# Altium footprint library aiskylab-08Optoelectronics.PcbLib: 57 footprints (part 1 of 4)
Each footprint in its own frame and in the unit in brackets; x right, y up, seen from the top. Pads: shape width x height; smd on the part's side, far side on the other; paste and mask are expansions set on the pad; w line width, h text height; cw(c..) or ccw(c..) is an arc to the next point about the centre after c.
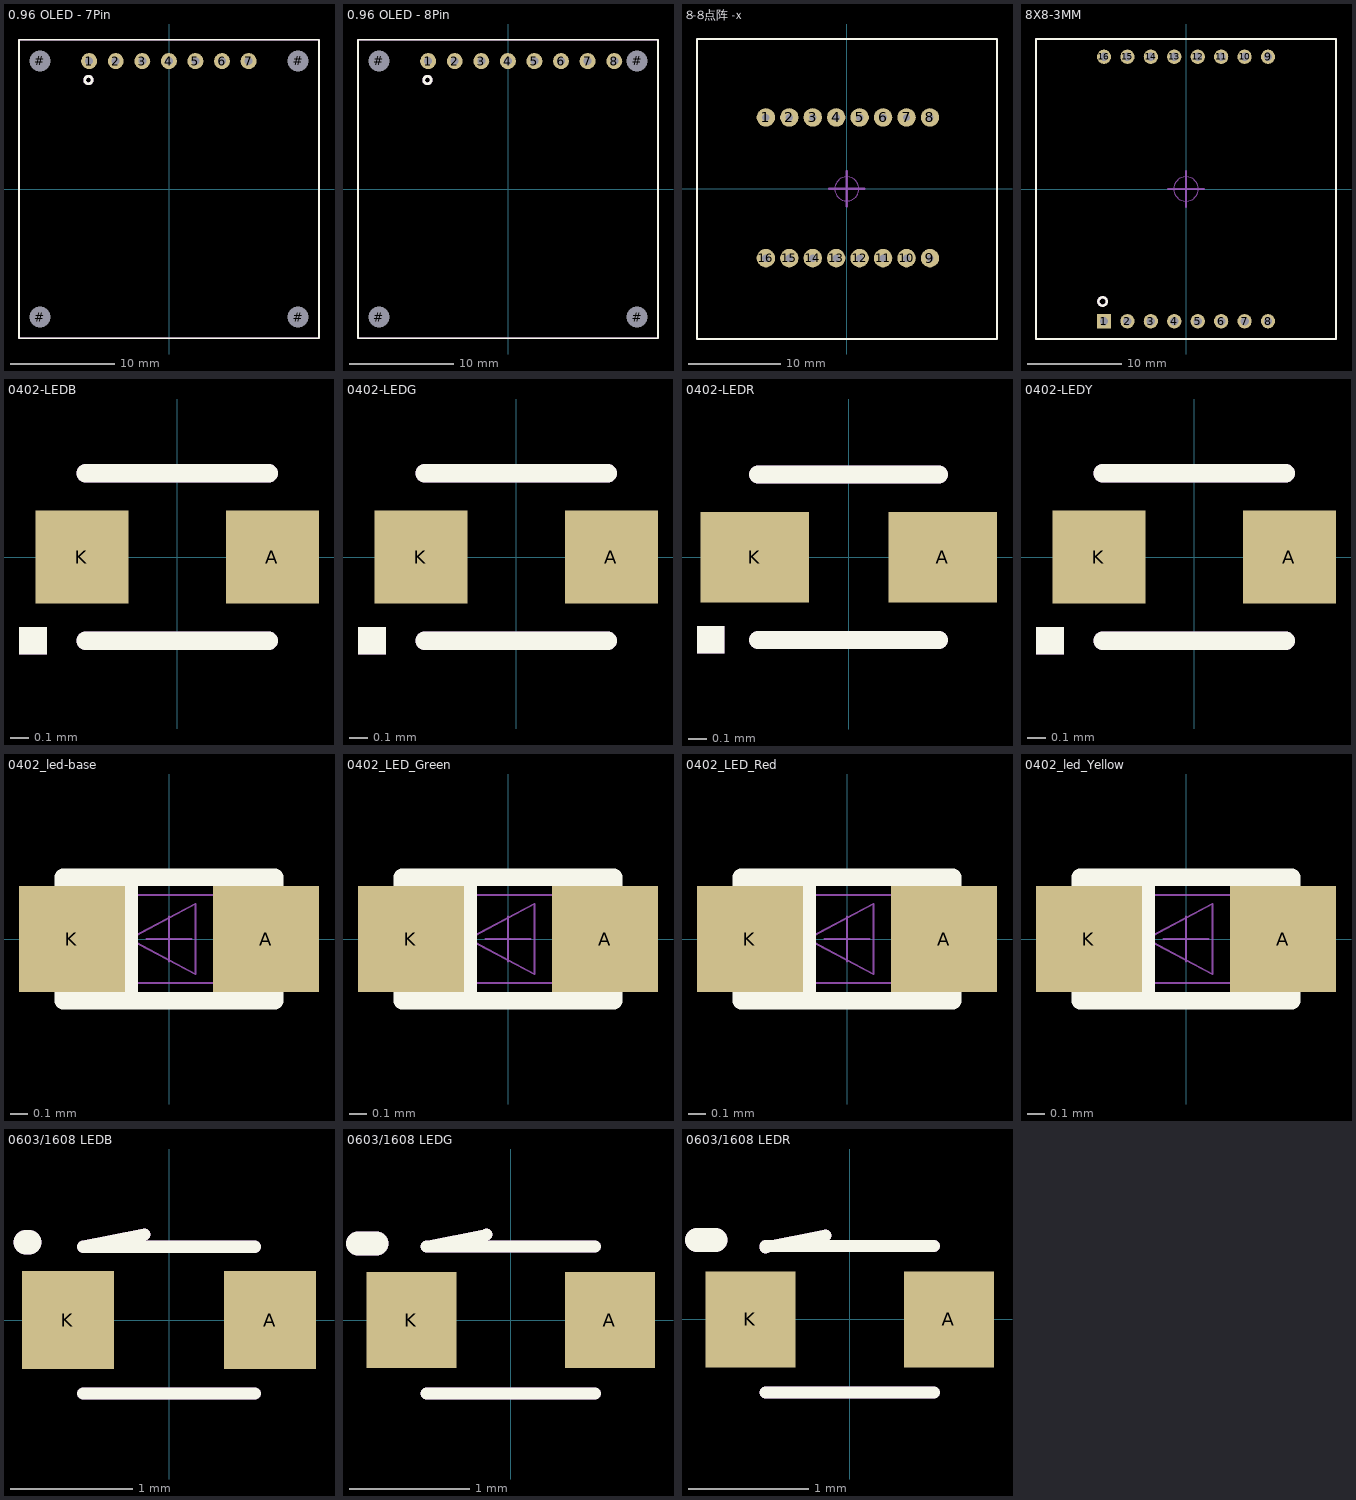
[diagram p0: the footprints below, top view; thin cyan lines are the x and y axes]

## 0.96 OLED - 7Pin [mil]
pads (11):
  round 60 hole 30: 1(-300.5,481.26) 2(-200.5,481.26) 3(-100.5,481.26) 4(-0.5,481.26) 5(99.5,481.26) 6(199.5,481.26) 7(299.5,481.26)
  round 60 hole 78.74: #(-485.76,-482.26) #(-485.76,482.26) #(485.76,-482.26) #(485.76,482.26)
Top Overlay:
  circle w10: c-303,410 r14.14
  lines w5.91: -564.5,-561 564.5,-561 564.5,561 -564.5,561 -564.5,-561
Top Designator:
  text ".Designator" at -300.06,-19.05 h60
Top Assembly:
  circle w10: c-303,410 r14.14
  lines w5.91: -564.5,-561 564.5,-561 564.5,561 -564.5,561 -564.5,-561
Top Component Outline:
  circle w10: c-303,410 r14.14
  lines w5.91: -564.5,-561 564.5,-561 564.5,561 -564.5,561 -564.5,-561
3D body "096-oled.stp": height 204.72, standoff -239.69, extent -567.77,-555.82 559.79,565.83

## 0.96 OLED - 8Pin [mil]
pads (12):
  round 60 hole 30: 1(-300.5,481.26) 2(-200.5,481.26) 3(-100.5,481.26) 4(-0.5,481.26) 5(99.5,481.26) 6(199.5,481.26) 7(299.5,481.26) 8(400,481.26)
  round 60 hole 78.74: #(-485.76,-482.26) #(-485.76,482.26) #(485.76,-482.26) #(485.76,482.26)
Top Overlay:
  circle w10: c-303,410 r14.14
  lines w5.91: -564.5,-561 564.5,-561 564.5,561 -564.5,561 -564.5,-561
Top Designator:
  text ".Designator" at -300.06,-19.05 h60
Top Assembly:
  circle w10: c-303,410 r14.14
  lines w5.91: -564.5,-561 564.5,-561 564.5,561 -564.5,561 -564.5,-561
Top Component Outline:
  circle w10: c-303,410 r14.14
  lines w5.91: -564.5,-561 564.5,-561 564.5,561 -564.5,561 -564.5,-561
3D body "096-oled.stp": height 204.72, standoff -239.69, extent -567.77,-555.82 559.79,565.83

## 0.96-128-64 [mil]
Top Designator:
  text ".Designator" at -284.9,-44.54 h60
3D body "128x64.stp": height 57.87, standoff -59.48, extent -510.59,-440.73 540.59,391.64

## 8-8点阵 -x [mm]
pads (16):
  round 2 hole 0.8: 1(-8.78,7.74) 2(-6.24,7.74) 3(-3.7,7.74) 4(-1.16,7.74) 5(1.38,7.74) 6(3.92,7.74) 7(6.46,7.74) 8(9,7.74) 9(9,-7.5) 10(6.46,-7.5) 11(3.92,-7.5) 12(1.38,-7.5) 13(-1.16,-7.5) 14(-3.7,-7.5) 15(-6.24,-7.5) 16(-8.78,-7.5)
Top Overlay:
  lines w0.254: -16.24,-16.26 -16.24,16.24 16.26,16.24 16.26,-16.26 -16.24,-16.26
Top Designator:
  text ".Designator" at -7.608,-0.518 h1.52
Top Component Center:
  circle w0.05: c0,0 r1.308
  lines w0.254: -1.905,0 1.905,0 ; 0,-1.905 0,1.905
3D body "8-8-3mmled.stp": height 7.2, standoff -3, extent -16,-16.01 16,16

## 8X8-3MM [mm]
pads (16):
  rect 1.524x1.524 hole 0.9: 1(-8.75,-14.1)
  round 1.524 hole 0.9: 2(-6.25,-14.1) 3(-3.75,-14.1) 4(-1.25,-14.1) 5(1.25,-14.1) 6(3.75,-14.1) 7(6.25,-14.1) 8(8.75,-14.1) 9(8.75,14.1) 10(6.25,14.1) 11(3.75,14.1) 12(1.25,14.1) 13(-1.25,14.1) 14(-3.75,14.1) 15(-6.25,14.1) 16(-8.75,14.1)
Top Overlay:
  circle w0.254: c-8.9,-12 r0.447
  lines w0.254: -16.002,-16.002 16.002,-16.002 16.002,16.002 -16.002,16.002 -16.002,-16.002
Top Designator:
  text ".Designator" at -7.618,-0.508 h1.52
Top Assembly:
  circle w0.254: c-8.9,-12 r0.447
  lines w0.254: -16.002,-16.002 16.002,-16.002 16.002,16.002 -16.002,16.002 -16.002,-16.002
Top Component Center:
  circle w0.05: c0,0 r1.308
  lines w0.254: -1.905,0 1.905,0 ; 0,-1.905 0,1.905
Top Component Outline:
  lines w0.254: -16.002,-16.002 16.002,-16.002 16.002,16.002 -16.002,16.002 -16.002,-16.002
Top 3D Body:
  lines w0.254: -16.002,-16.002 16.002,-16.002 16.002,16.002 -16.002,16.002 -16.002,-16.002
3D body "8-8-3mmled.stp": height 7.2, standoff -3, extent -16,-16.01 16,16

## 0402-LEDB [mil]
height 122.05
pads (2):
  rect 20x20 smd mask+2.76: A(20.5,0)
  rect 20x20 smd: K(-20.5,0)
Top Overlay:
  region: -28,-15 -34,-15 -34,-21 -28,-21
  lines w3.94: -19.68,-18 19.68,-18 ; -19.68,18 19.68,18
Bottom Overlay:
Top Designator:
  text ".Designator" at -277.15,-20.51 h60
Top Assembly:
  region: -28,-15 -34,-15 -34,-21 -28,-21
  lines w3.94: -19.68,-18 19.68,-18 ; -19.68,18 19.68,18
Top Component Outline:
  region: -28,-15 -34,-15 -34,-21 -28,-21
  lines w3.94: -19.68,-18 19.68,-18 ; -19.68,18 19.68,18
3D body "led_0402g.stp": height 15.55, standoff 0, extent -19.69,-9.85 19.68,9.84
3D body "0_508-0_508-0402-3.stp": height 0.79, standoff 0, extent -30.5,-9.99 -10.5,10.01
3D body "0_508-0_508-0402-3.stp": height 0.79, standoff 0, extent 10.5,-10 30.5,10

## 0402-LEDG [mil]
height 122.05
pads (2):
  rect 20x20 smd mask+2.76: A(20.5,0)
  rect 20x20 smd: K(-20.5,0)
Top Overlay:
  region: -28,-15 -34,-15 -34,-21 -28,-21
  lines w3.94: -19.68,-18 19.68,-18 ; -19.68,18 19.68,18
Bottom Overlay:
Top Designator:
  text ".Designator" at -277.15,-20.51 h60
Top Assembly:
  region: -28,-15 -34,-15 -34,-21 -28,-21
  lines w3.94: -19.68,-18 19.68,-18 ; -19.68,18 19.68,18
Top Component Outline:
  region: -28,-15 -34,-15 -34,-21 -28,-21
  lines w3.94: -19.68,-18 19.68,-18 ; -19.68,18 19.68,18
3D body "led_0402b.stp": height 15.55, standoff 0, extent -19.69,-9.85 19.68,9.84
3D body "0_508-0_508-0402-3.stp": height 0.79, standoff 0, extent -30.5,-9.99 -10.5,10.01
3D body "0_508-0_508-0402-3.stp": height 0.79, standoff 0, extent 10.5,-10 30.5,10

## 0402-LEDR [mm]
height 3.1
pads (2):
  rect 0.6x0.5 smd: A(0.52,0)
  rect 0.6x0.5 smd mask+0.07: K(-0.52,0)
Top Overlay:
  region: -0.686,-0.381 -0.838,-0.381 -0.838,-0.533 -0.686,-0.533
  lines w0.1: -0.5,-0.457 0.5,-0.457 ; -0.5,0.457 0.5,0.457
Bottom Overlay:
Top Designator:
  text ".Designator" at -7.047,-0.521 h1.52
Top Assembly:
  region: -0.686,-0.381 -0.838,-0.381 -0.838,-0.533 -0.686,-0.533
  lines w0.1: -0.5,-0.457 0.5,-0.457 ; -0.5,0.457 0.5,0.457
Top Component Outline:
  region: -0.686,-0.381 -0.838,-0.381 -0.838,-0.533 -0.686,-0.533
  lines w0.1: -0.5,-0.457 0.5,-0.457 ; -0.5,0.457 0.5,0.457
3D body "led_0402r.stp": height 0.4, standoff 0, extent -0.5,-0.25 0.5,0.25
3D body "0_508-0_508-0402-3.stp": height 0.02, standoff 0, extent -0.813,-0.254 -0.305,0.254
3D body "0_508-0_508-0402-3.stp": height 0.02, standoff 0, extent 0.305,-0.254 0.813,0.254

## 0402-LEDY [mil] "Yellow"
height 122.05
pads (2):
  rect 20x20 smd mask+2.76: A(20.5,0)
  rect 20x20 smd: K(-20.5,0)
Top Overlay:
  region: -28,-15 -34,-15 -34,-21 -28,-21
  lines w3.94: -19.68,-18 19.68,-18 ; -19.68,18 19.68,18
Bottom Overlay:
Top Designator:
  text ".Designator" at -277.15,-20.51 h60
Top Assembly:
  region: -28,-15 -34,-15 -34,-21 -28,-21
  lines w3.94: -19.68,-18 19.68,-18 ; -19.68,18 19.68,18
Top Component Outline:
  region: -28,-15 -34,-15 -34,-21 -28,-21
  lines w3.94: -19.68,-18 19.68,-18 ; -19.68,18 19.68,18
3D body "led_0402h.stp": height 15.55, standoff 0, extent -19.69,-9.85 19.68,9.84
3D body "0_508-0_508-0402-3.stp": height 0.79, standoff 0, extent -30.5,-9.99 -10.5,10.01
3D body "0_508-0_508-0402-3.stp": height 0.79, standoff 0, extent 10.5,-10 30.5,10

## 0402_led-base [mm] "CHIPLED 0402 Lx QH9x OSRAM"
height 0.4
pads (2):
  rect 0.6x0.6 smd paste-0.5 mask+0.1: A(0.55,0) K(-0.55,0)
Top Overlay:
  lines w0.1: -0.375,-0.35 -0.375,0.35 ; -0.325,-0.35 -0.325,0.35 ; -0.225,-0.35 -0.225,0.35 ; -0.6,-0.35 0.6,-0.35 0.6,0.35 -0.6,0.35 -0.6,-0.35
Top Paste:
  region: -0.25,-0.275 -0.6,-0.275 -0.63,-0.275 -0.685,-0.252 -0.727,-0.21 -0.75,-0.155 -0.75,-0.125 -0.75,0.125 -0.75,0.155 -0.727,0.21 -0.685,0.252 -0.63,0.275 -0.6,0.275 -0.25,0.275 -0.35,0
  region: 0.25,0.275 0.6,0.275 0.63,0.275 0.685,0.252 0.727,0.21 0.75,0.155 0.75,0.125 0.75,-0.125 0.75,-0.155 0.727,-0.21 0.685,-0.252 0.63,-0.275 0.6,-0.275 0.25,-0.275 0.35,0
  lines w0.01: -0.75,-0.125 ccw(c-0.6,-0.125) -0.6,-0.275 -0.25,-0.275 -0.35,0 -0.25,0.275 -0.6,0.275 ccw(c-0.6,0.125) -0.75,0.125 -0.75,-0.125 ; 0.25,-0.275 0.6,-0.275 ccw(c0.6,-0.125) 0.75,-0.125 0.75,0.125 ccw(c0.6,0.125) 0.6,0.275 0.25,0.275 0.35,0 0.25,-0.275
Top Designator:
  text ".Designator" at -7.618,-0.508 h1.52
Top Assembly:
  lines w0.01: -0.225,-0.2 -0.225,0 ; -0.225,0.2 -0.225,0 ; -0.127,0 0.127,0 ; 0,-0.127 0,0.127 ; -0.225,0 0.15,-0.2 0.15,0.2 -0.225,0 ; -0.5,-0.25 -0.5,0.25 0.5,0.25 0.5,-0.25 -0.5,-0.25
3D body "ChipLedLens.stp": height 0.35, standoff 0.15, extent -0.5,-0.25 0.5,0.25
3D body "ChipLedWith-Red.stp": height 0.16, standoff 0, extent -0.502,-0.252 0.502,0.252

## 0402_LED_Green [mm] "CHIPLED TREU GREEN 0402 / LT QH9G OSRAM"
height 0.4
pads (2):
  rect 0.6x0.6 smd: A(0.55,0) K(-0.55,0)
Top Overlay:
  lines w0.1: -0.375,-0.35 -0.375,0.35 ; -0.325,-0.35 -0.325,0.35 ; -0.225,-0.35 -0.225,0.35 ; -0.6,-0.35 0.6,-0.35 0.6,0.35 -0.6,0.35 -0.6,-0.35
Top Paste:
  region: -0.25,-0.275 -0.6,-0.275 -0.63,-0.275 -0.685,-0.252 -0.727,-0.21 -0.75,-0.155 -0.75,-0.125 -0.75,0.125 -0.75,0.155 -0.727,0.21 -0.685,0.252 -0.63,0.275 -0.6,0.275 -0.25,0.275 -0.35,0
  region: 0.25,0.275 0.6,0.275 0.63,0.275 0.685,0.252 0.727,0.21 0.75,0.155 0.75,0.125 0.75,-0.125 0.75,-0.155 0.727,-0.21 0.685,-0.252 0.63,-0.275 0.6,-0.275 0.25,-0.275 0.35,0
  lines w0.01: -0.75,-0.125 ccw(c-0.6,-0.125) -0.6,-0.275 -0.25,-0.275 -0.35,0 -0.25,0.275 -0.6,0.275 ccw(c-0.6,0.125) -0.75,0.125 -0.75,-0.125 ; 0.25,-0.275 0.6,-0.275 ccw(c0.6,-0.125) 0.75,-0.125 0.75,0.125 ccw(c0.6,0.125) 0.6,0.275 0.25,0.275 0.35,0 0.25,-0.275
Top Designator:
  text ".Designator" at -7.618,-0.508 h1.52
Top Assembly:
  lines w0.01: -0.225,-0.2 -0.225,0 ; -0.225,0.2 -0.225,0 ; -0.127,0 0.127,0 ; 0,-0.127 0,0.127 ; -0.225,0 0.15,0.2 0.15,-0.2 -0.225,0 ; -0.5,-0.25 -0.5,0.25 0.5,0.25 0.5,-0.25 -0.5,-0.25
3D body "ChipLedLens.stp": height 0.35, standoff 0.15, extent -0.5,-0.25 0.5,0.25
3D body "ChipLedWith-Green.stp": height 0.16, standoff 0, extent -0.502,-0.252 0.502,0.252

## 0402_LED_Red [mm] "CHIPLED RED 0402 / LR QH9F OSRAM"
height 0.4
pads (2):
  rect 0.6x0.6 smd paste-0.5 mask+0.1: A(0.55,0) K(-0.55,0)
Top Overlay:
  lines w0.1: -0.375,-0.35 -0.375,0.35 ; -0.325,-0.35 -0.325,0.35 ; -0.225,-0.35 -0.225,0.35 ; -0.6,-0.35 0.6,-0.35 0.6,0.35 -0.6,0.35 -0.6,-0.35
Top Paste:
  region: -0.25,-0.275 -0.6,-0.275 -0.63,-0.275 -0.685,-0.252 -0.727,-0.21 -0.75,-0.155 -0.75,-0.125 -0.75,0.125 -0.75,0.155 -0.727,0.21 -0.685,0.252 -0.63,0.275 -0.6,0.275 -0.25,0.275 -0.35,0
  region: 0.25,0.275 0.6,0.275 0.63,0.275 0.685,0.252 0.727,0.21 0.75,0.155 0.75,0.125 0.75,-0.125 0.75,-0.155 0.727,-0.21 0.685,-0.252 0.63,-0.275 0.6,-0.275 0.25,-0.275 0.35,0
  lines w0.01: -0.75,-0.125 ccw(c-0.6,-0.125) -0.6,-0.275 -0.25,-0.275 -0.35,0 -0.25,0.275 -0.6,0.275 ccw(c-0.6,0.125) -0.75,0.125 -0.75,-0.125 ; 0.25,-0.275 0.6,-0.275 ccw(c0.6,-0.125) 0.75,-0.125 0.75,0.125 ccw(c0.6,0.125) 0.6,0.275 0.25,0.275 0.35,0 0.25,-0.275
Top Designator:
  text ".Designator" at -7.618,-0.508 h1.52
Top Assembly:
  lines w0.01: -0.225,-0.2 -0.225,0 ; -0.225,0.2 -0.225,0 ; -0.127,0 0.127,0 ; 0,-0.127 0,0.127 ; -0.225,0 0.15,-0.2 0.15,0.2 -0.225,0 ; -0.5,-0.25 0.5,-0.25 0.5,0.25 -0.5,0.25 -0.5,-0.25
3D body "ChipLedWith-Red.stp": height 0.16, standoff 0, extent -0.502,-0.252 0.502,0.252
3D body "ChipLedLens.stp": height 0.35, standoff 0.15, extent -0.5,-0.25 0.5,0.25

## 0402_led_Yellow [mm] "CHIPLED YELLOW 0402 / LY QH9G OSRAM"
height 0.4
pads (2):
  rect 0.6x0.6 smd paste-0.5 mask+0.1: A(0.55,0) K(-0.55,0)
Top Overlay:
  lines w0.1: -0.375,-0.35 -0.375,0.35 ; -0.325,-0.35 -0.325,0.35 ; -0.225,-0.35 -0.225,0.35 ; -0.6,-0.35 -0.6,0.35 0.6,0.35 0.6,-0.35 -0.6,-0.35
Top Paste:
  region: 0.25,0.275 0.6,0.275 0.63,0.275 0.685,0.252 0.727,0.21 0.75,0.155 0.75,0.125 0.75,-0.125 0.75,-0.155 0.727,-0.21 0.685,-0.252 0.63,-0.275 0.6,-0.275 0.25,-0.275 0.35,0
  region: -0.25,-0.275 -0.6,-0.275 -0.63,-0.275 -0.685,-0.252 -0.727,-0.21 -0.75,-0.155 -0.75,-0.125 -0.75,0.125 -0.75,0.155 -0.727,0.21 -0.685,0.252 -0.63,0.275 -0.6,0.275 -0.25,0.275 -0.35,0
  lines w0.01: -0.75,-0.125 ccw(c-0.6,-0.125) -0.6,-0.275 -0.25,-0.275 -0.35,0 -0.25,0.275 -0.6,0.275 ccw(c-0.6,0.125) -0.75,0.125 -0.75,-0.125 ; 0.25,-0.275 0.35,0 0.25,0.275 0.6,0.275 cw(c0.6,0.125) 0.75,0.125 0.75,-0.125 cw(c0.6,-0.125) 0.6,-0.275 0.25,-0.275
Top Designator:
  text ".Designator" at -7.618,-0.508 h1.52
Top Assembly:
  lines w0.01: -0.225,-0.2 -0.225,0 ; -0.225,0.2 -0.225,0 ; -0.127,0 0.127,0 ; 0,-0.127 0,0.127 ; -0.225,0 0.15,0.2 0.15,-0.2 -0.225,0 ; -0.5,-0.25 0.5,-0.25 0.5,0.25 -0.5,0.25 -0.5,-0.25
3D body "ChipLedWith-Yellow.stp": height 0.16, standoff 0, extent -0.502,-0.252 0.502,0.252
3D body "ChipLedLens.stp": height 0.35, standoff 0.15, extent -0.5,-0.25 0.5,0.25

## 0603/1608 LEDB [mm]
height 3.1
pads (2):
  rect 0.75x0.8 smd: A(0.826,0) K(-0.826,0)
Top Overlay:
  lines w0.1: -0.7,-0.6 0.7,-0.6 ; -0.2,0.7 -0.7,0.6 0.7,0.6
  lines w0.2: -1.168,0.635 -1.143,0.635
Top Designator:
  text ".Designator" at -7.618,-0.458 h1.52
Top Assembly:
  lines w0.1: -0.7,-0.6 0.7,-0.6 ; -0.2,0.7 -0.7,0.6 0.7,0.6
  lines w0.2: -1.168,0.635 -1.143,0.635
Top Component Outline:
  lines w0.1: -0.7,-0.6 0.7,-0.6 ; -0.2,0.7 -0.7,0.6 0.7,0.6
  lines w0.2: -1.168,0.635 -1.143,0.635
3D body "0603-ledb.stp": height 0.35, standoff 0, extent -0.8,-0.4 0.8,0.4
3D body "0_8128-0_762-0603.stp": height 0.02, standoff 0, extent 0.444,-0.406 1.206,0.406
3D body "0_8128-0_762-0603.stp": height 0.02, standoff 0, extent -1.207,-0.406 -0.445,0.407

## 0603/1608 LEDG [mm] "Kingbright,1608,LED,400 mcd 120*"
height 3.1
pads (2):
  rect 0.75x0.8 smd: A(0.826,0) K(-0.826,0)
Top Overlay:
  lines w0.1: -0.7,-0.61 0.7,-0.61 ; -0.2,0.71 -0.7,0.61 0.7,0.61
  lines w0.2: -1.27,0.635 -1.118,0.635
Top Designator:
  text ".Designator" at -7.651,-0.458 h1.52
Top Assembly:
  lines w0.1: -0.7,-0.61 0.7,-0.61 ; -0.2,0.71 -0.7,0.61 0.7,0.61
  lines w0.2: -1.27,0.635 -1.118,0.635
Top Component Outline:
  lines w0.1: -0.7,-0.61 0.7,-0.61 ; -0.2,0.71 -0.7,0.61 0.7,0.61
  lines w0.2: -1.27,0.635 -1.118,0.635
3D body "0603-ledg.stp": height 0.35, standoff 0, extent -0.8,-0.4 0.8,0.4
3D body "0_8128-0_762-0603.stp": height 0.02, standoff 0, extent 0.444,-0.406 1.206,0.406
3D body "0_8128-0_762-0603.stp": height 0.02, standoff 0, extent -1.207,-0.406 -0.445,0.407

## 0603/1608 LEDR [mm]
height 3.1
pads (2):
  rect 0.75x0.8 smd: A(0.826,0) K(-0.826,0)
Top Overlay:
  lines w0.1: -0.7,-0.61 0.7,-0.61 ; -0.7,0.6 -0.2,0.7 ; -0.7,0.61 0.7,0.61
  lines w0.2: -1.27,0.66 -1.118,0.66
Top Designator:
  text ".Designator" at -7.651,-0.457 h1.52
Top Assembly:
  lines w0.1: -0.7,-0.61 0.7,-0.61 ; -0.7,0.6 -0.2,0.7 ; -0.7,0.61 0.7,0.61
  lines w0.2: -1.27,0.66 -1.118,0.66
Top Component Outline:
  lines w0.1: -0.7,-0.61 0.7,-0.61 ; -0.7,0.6 -0.2,0.7 ; -0.7,0.61 0.7,0.61
  lines w0.2: -1.27,0.66 -1.118,0.66
3D body "0_8128-0_762-0603.stp": height 0.02, standoff 0, extent -1.207,-0.406 -0.445,0.407
3D body "0_8128-0_762-0603.stp": height 0.02, standoff 0, extent 0.444,-0.406 1.206,0.406
3D body "0603-led-r.stp": height 0.79, standoff 0, extent -0.8,-0.4 0.8,0.4